# EAGLE library part LT1764AEF (library linear-technology)
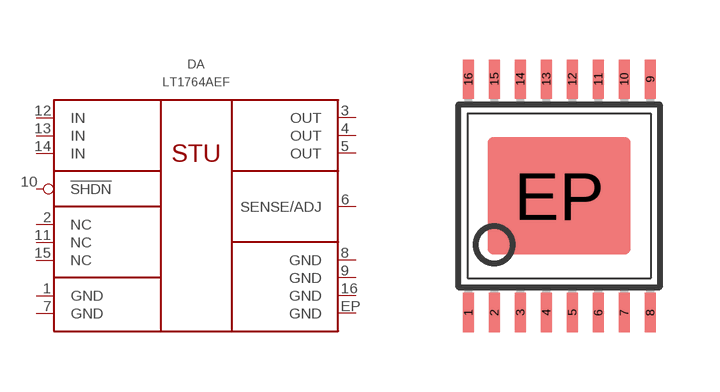
[diagram p13: symbol with the pads of TSSOP16; footprint TSSOP16]

Designator prefix DA

## LT1764AEFE  [TSSOP16]
1  GND  pwr
2  NC  nc
3  OUT  pwr
4  OUT  pwr
5  OUT  pwr
6  SENSE/ADJ  pas
7  GND  pwr
8  GND  pwr
9  GND  pwr
10  !SHDN  in
11  NC  nc
12  IN  pwr
13  IN  pwr
14  IN  pwr
15  NC  nc
16  GND  pwr
EP  GND  pwr

## LT1764AEFE-1.5  [TSSOP16]
Pads as for TSSOP16

## LT1764AEFE-1.8  [TSSOP16]
Pads as for TSSOP16

## LT1764AEFE-2.5  [TSSOP16]
Pads as for TSSOP16

## LT1764AEFE-3.3  [TSSOP16]
Pads as for TSSOP16

## Footprint TSSOP16 (pad centres in mm)
Thin Shrink Small Outline Plastic 16 MAX3223-MAX3243.pdf
smd 0.305 x 0.991: 1 -2.275,-2.918; 2 -1.625,-2.918; 3 -0.975,-2.918; 4 -0.325,-2.918; 5 0.325,-2.918; 6 0.975,-2.918; 7 1.625,-2.918; 8 2.275,-2.918; 9 2.275,2.918; 10 1.625,2.918; 11 0.975,2.918; 12 0.325,2.918; 13 -0.325,2.918; 14 -0.975,2.918; 15 -1.625,2.918; 16 -2.275,2.918
smd 3.58 x 2.94: EP 0,0